# EAGLE library part ESP32 (library ESP32)
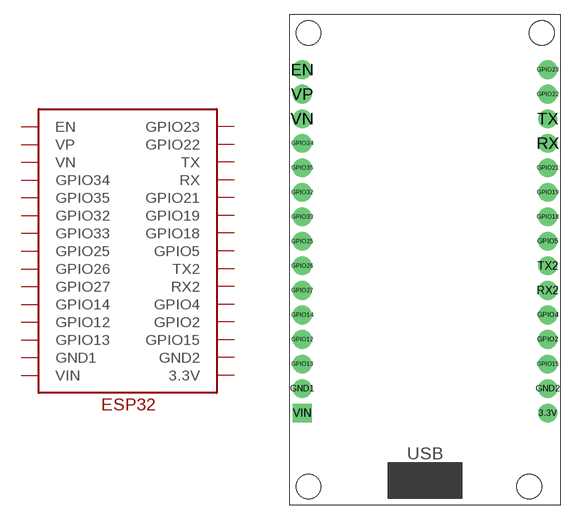
[diagram p0: symbol with the pads of ESP32; footprint ESP32]

Designator prefix -

## ESP32  [ESP32]
3.3V  3.3V
EN  EN
GND1  GND1
GND2  GND2
GPIO2  GPIO2
GPIO4  GPIO4
GPIO5  GPIO5
GPIO12  GPIO12
GPIO13  GPIO13
GPIO14  GPIO14
GPIO15  GPIO15
GPIO18  GPIO18
GPIO19  GPIO19
GPIO21  GPIO21
GPIO22  GPIO22
GPIO23  GPIO23
GPIO25  GPIO25
GPIO26  GPIO26
GPIO27  GPIO27
GPIO32  GPIO32
GPIO33  GPIO33
GPIO34  GPIO34
GPIO35  GPIO35
RX  RX
RX2  RX2
TX  TX
TX2  TX2
VIN  VIN
VN  VN
VP  VP

## Footprint ESP32 (pad centres in mm)
drill 0.85 pad 1.93: 3.3V 25.4,0; EN 0,35.56; GND1 0,2.54; GND2 25.4,2.54; GPIO2 25.4,7.62; GPIO4 25.4,10.16; GPIO5 25.4,17.78; GPIO12 0,7.62; GPIO13 0,5.08; GPIO14 0,10.16; GPIO15 25.4,5.08; GPIO19 25.4,22.86; GPIO21 25.4,25.4; GPIO22 25.4,33.02; GPIO23 25.4,35.56; GPIO25 0,17.78; GPIO26 0,15.24; GPIO27 0,12.7; GPIO32 0,22.86; GPIO33 0,20.32; GPIO34 0,27.94; GPIO35 0,25.4; RX 25.4,27.94; RX2 25.4,12.7; TX 25.4,30.48; TX2 25.4,15.24; VN 0,30.48; VP 0,33.02
drill 0.6 pad 1.93: GPIO18 25.4,20.32
drill 0.85 pad 1.93 square: VIN 0,0